# Altium integrated library Linear Technology Power Management Switching Regulator LTC1174-LTC3901.IntLib: 2647 symbols (part 348 of 364)
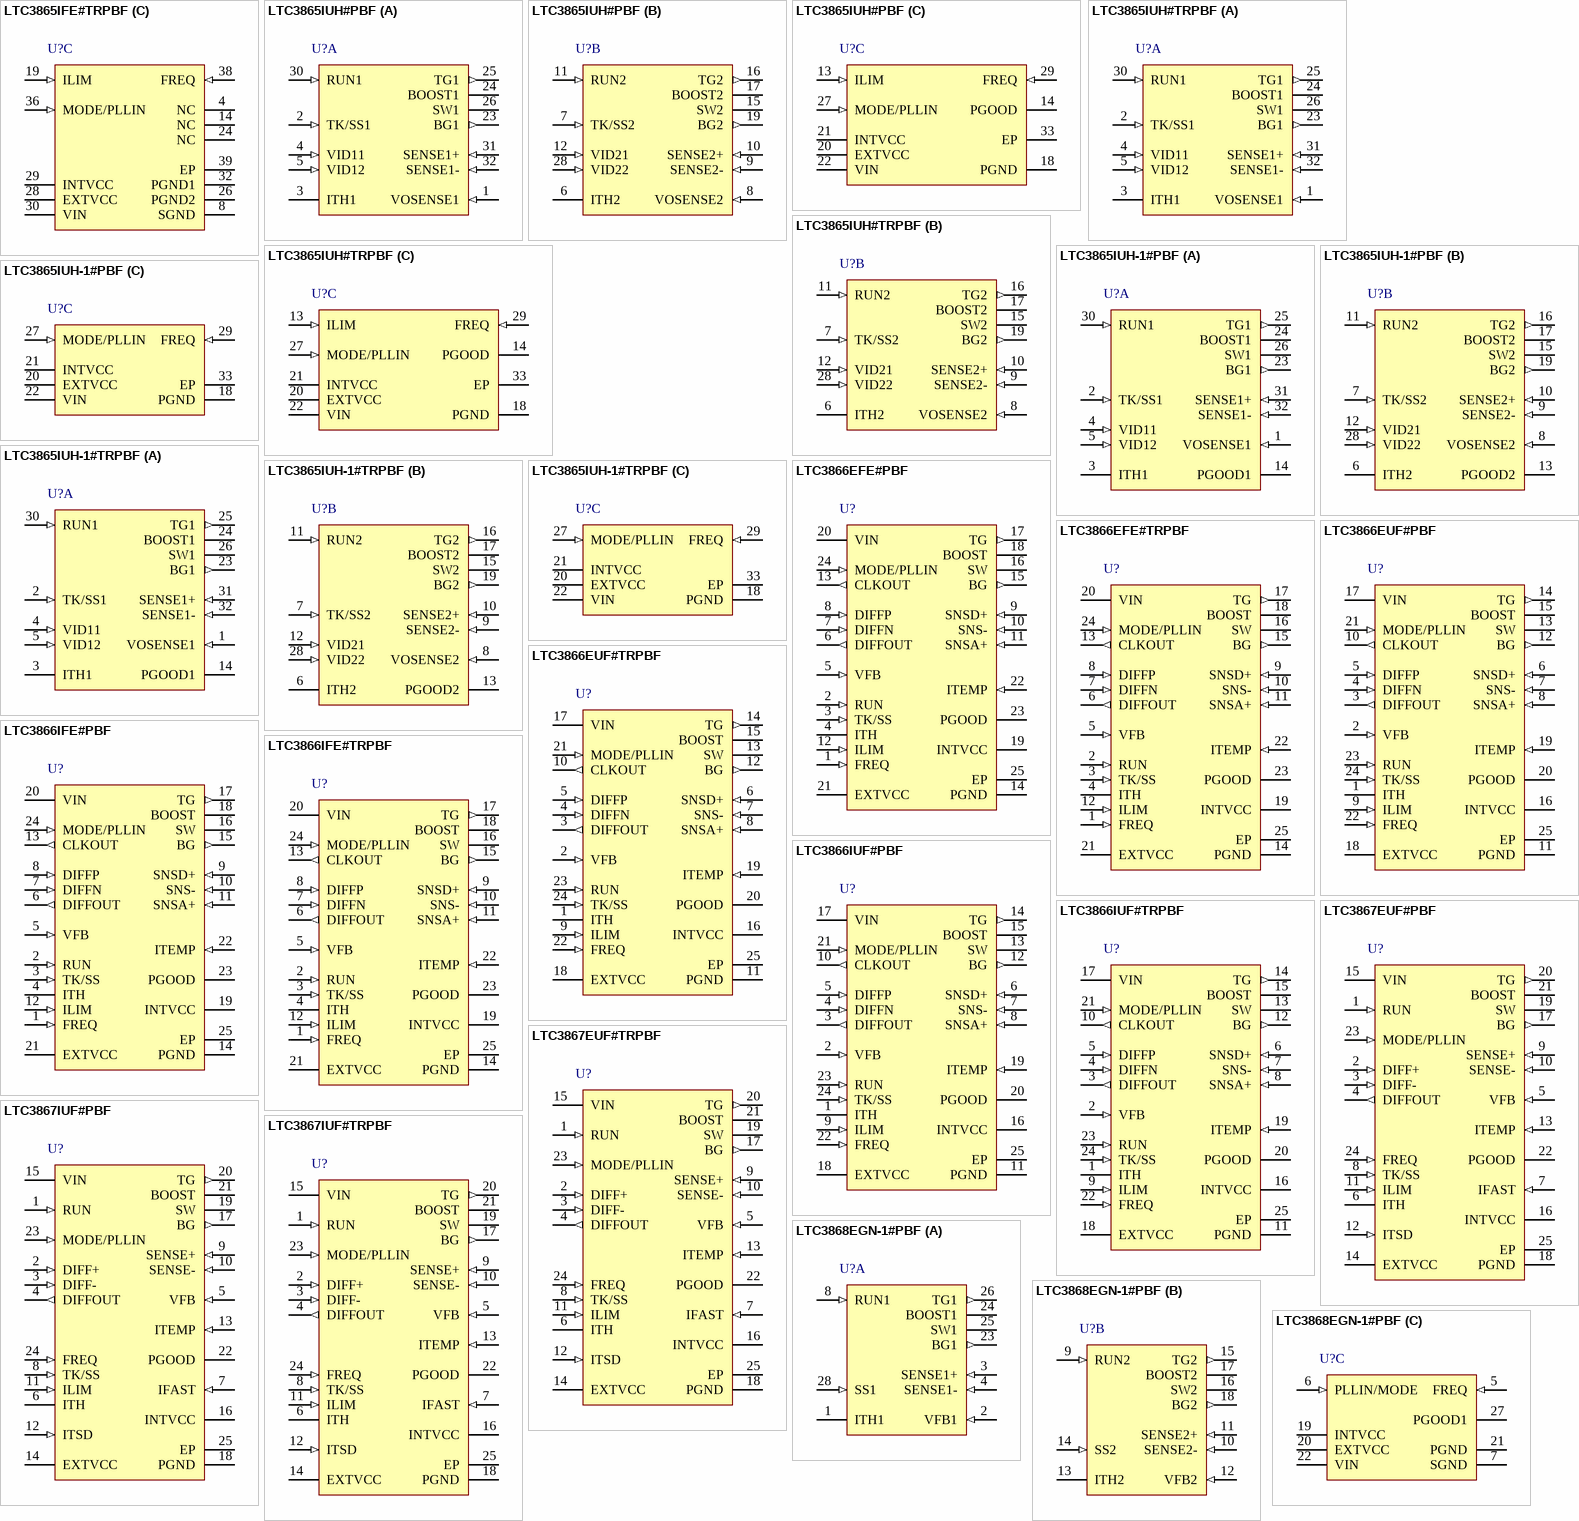
[diagram p297: symbols LTC3865IFE#TRPBF to LTC3868EGN-1#PBF]

## LTC3866IFE#TRPBF
designator U?
Current Mode Synchronous Controller for Sub Milliohm DCR Sensing, 24-pin SOP (FE-24-EPV-AA), -40 to 125 degC, Pb-Free, Tape and Reel; Manufacturer: Linear Technology; PartNumber: LTC3866IFE#TRPBF; Frequency Sync Range: 250kHz - 770kHz; Number of Outputs: 1; DatasheetVersion: Rev. B; PackageVersion: Rev. B, 09/2010; PackageReference: FE-24; PackageDescription: 24-Pin Plastic TSSOP, Body 7.8 x 4.4 mm, Pitch 0.65 mm; Supplier 1: Digi-Key; Supplier Part Number 1: LTC3866IFE#TRPBF-ND; Packing: Tape and Reel; RoHS: TRUE; Mounting Technology: Surface Mount; ComponentLink1Description: Manufacturer URL; ComponentLink1URL: http://www.linear.com/; ComponentLink2Description: Datasheet; ComponentLink2URL: http://cds.linear.com/docs/en/datasheet/3866fb.pdf; ComponentLink3Description: Package Specification; ComponentLink3URL: http://cds.linear.com/docs/en/packaging/TSSOP_24_05-08-1771.pdf
footprint LT-FE-24-EPV-AA_N (SOP, 24-Leads, Body 7.9x4.5mm, Pitch 0.65mm, Thermal Pad 2.74x3.25mm, IPC Medium Density)
footprint LT-FE-24-EPV-AA_L (SOP, 24-Leads, Body 7.9x4.5mm, Pitch 0.65mm, Thermal Pad 2.74x3.25mm, IPC High Density)
footprint LT-FE-24-EPV-AA_M (SOP, 24-Leads, Body 7.9x4.5mm, Pitch 0.65mm, Thermal Pad 2.74x3.25mm, IPC Low Density)
pins: 1 FREQ (in) "Oscillator Frequency Control Input. A 10uA current source flows out of this pin. Connecting a resistor between this pin and ground sets a DC voltage which in turn programs the oscillator frequency. Alternatively, this pin (See Datasheet)", 2 RUN (in) "Run Control Input. A voltage above 1.22V turns on the IC. Pulling this pin below 1.14V causes M198 the IC to shut down. There is a 1uA pull-up current for the pin. Once the RUN pin rises above 1.22V, an additional 4.5uA (See Datasheet)", 3 TK/SS (in) "Output Voltage Tracking and Soft-Start Input. An internal soft-start current of 1.25uA charges the external soft-start capacitor connected to this pin.", 4 ITH "Current Control Threshold and Error Amplifier Compensation Pin. The current comparator tripping threshold is proportional with this voltage.", 5 VFB (in) "Error Amplifier Feedback Input. This pin receives the remotely sensed feedback voltage to set the output voltage through an external resistive divider connected to the DIFFOUT pin or the output.", 6 DIFFOUT (out) "Output of Remote Sensing Differential Amplifier. Connect this pin to VFB through a resistive divider to set the desired output voltage.", 7 DIFFN (in) "Negative Input of Remote Sensing Differential Amplifier. Connect this pin close to the ground of the output load.", 8 DIFFP (in) "Positive Input of Remote Sensing Differential Amplifier. Connect this pin close to the output load.", 9 SNSD+ (in) "First Positive Current Sense Input. This pin is connected to sense the signal of the output inductor’s DCR, it is to be used with a filter that matches the bandwidth, L/DCR, of the inductor.", 10 SNS- (in) "Negative Current Sense Input. This negative input of the current comparator is to be connected to the output.", 11 SNSA+ (in) "Second Positive Current Sense Input. This input is to be connected to sense the signal of the output’s inductor DCR with a filter bandwidth of five times larger than L/DCR.", 12 ILIM (in) "Current Comparator Sense Voltage Limit. Apply a DC voltage to set the maximum current sense threshold for the current comparator.", 13 CLKOUT (out) "Clock Output Pin. The CLKOUT signal is 180degrees out of phase to the rising edge of the IC internal clock.", 14 PGND (power) "Power Ground. Connect to the source of the bottom N-channel MOSFET and the negative terminals of the VIN and INTVCC decoupling capacitors close to this pin.", 15 BG (out) "Bottom Gate Driver Output. This pin drives the gate of the bottom N-channel MOSFET and swings between INTVCC or EXTVCC and PGND.", 16 SW "Switch Node Connection. Connect this pin to the output filter inductor, bottom N-channel MOSFET drain and top N-channel MOSFET source. Voltage swing at these pins is from a Schottky diode (external) voltage drop below ground (See Datasheet)", 17 TG (out) "Top Gate Driver Output. This is a floating driver to be connected to the gate of the top N-channel MOSFET. The voltage swing of this pin equals to INTVCC superimposed over the switch node (SW) voltage.", 18 BOOST "Boosted Top Gate Driver Supply. The (+) terminal of the booststrap capacitor connects to this pin. This pins swings from a diode voltage drop below INTVCC up to VIN + INTVCC.", 19 INTVCC (power) "Internal 5.5V Regulator Output. The internal control circuits are powered from this voltage. Decouple this pin to PGND with a 4.7uF low ESR tantalum or ceramic capacitor.", 20 VIN (power) "Main Input Supply. Decouple this pin to PGND with a capacitor (0.1uF to 1uF). For applications where the main input power is 5V, tie the VIN and INTVCC pins together.", 21 EXTVCC (power) "External Supply Voltage Input. Whenever an external voltage supply greater than 4.7V is connected to this pin, an internal switch will close and bypass the internal low dropout regulator, and the external supply will power (See Datasheet)", 22 ITEMP (in) "Temperature DCR Compensation Input. Connect to a NTC (negative tempco) resistor placed near the output inductor to compensate for its DCR change over temperature. Floating this pin or tying it to INTVCC disables the DCR (See Datasheet)", 23 PGOOD (oc) "Power Good Indicator Output. Open-drain logic out that is pulled to ground when the output exceeds the 10% regulation window, after the internal 20us power bad mask timer expires.", 24 MODE/PLLIN (in) "Mode Operation or External Clock Synchronization. Connect this pin to SGND to set the continuous mode of operation. Connect to INTVCC to enable pulse-skipping mode of operation. Leaving the pin floating will enable Burst (See Datasheet)", 25 EP (power) "Signal Ground. This is the ground of the controller. Connect compensation components and output setting resistors to this ground. The exposed pad must be soldered to the PCB ground plane."

## LTC3866IUF#PBF
designator U?
Current Mode Synchronous Controller for Sub Milliohm DCR Sensing, 24-pin QFN (UF-24), -40 to 125 degC, Pb-Free; Manufacturer: Linear Technology; PartNumber: LTC3866IUF#PBF; Frequency Sync Range: 250kHz - 770kHz; Number of Outputs: 1; DatasheetVersion: Rev. B; PackageVersion: Rev. B, 02/2012; PackageReference: UF24; PackageDescription: 24-Pin Plastic QFN, Body 4 x 4 mm, Pitch 0.5 mm; Supplier 1: Digi-Key; Supplier Part Number 1: LTC3866IUF#PBF-ND; RoHS: TRUE; Mounting Technology: Surface Mount; Code_JEDEC: MO-220; ComponentLink1Description: Manufacturer URL; ComponentLink1URL: http://www.linear.com/; ComponentLink2Description: Datasheet; ComponentLink2URL: http://cds.linear.com/docs/en/datasheet/3866fb.pdf; ComponentLink3Description: Package Specification; ComponentLink3URL: http://cds.linear.com/docs/en/packaging/%28UF24%29%20QFN%2005-08-1697%20Rev%20B.pdf
footprint LT-UF-24_N (QFN, 24-Leads, Body 4.1x4.1mm, Pitch 0.5mm, Thermal Pad 2.45x2.45mm, IPC Medium Density)
footprint LT-UF-24_L (QFN, 24-Leads, Body 4.1x4.1mm, Pitch 0.5mm, Thermal Pad 2.45x2.45mm, IPC High Density)
footprint LT-UF-24_M (QFN, 24-Leads, Body 4.1x4.1mm, Pitch 0.5mm, Thermal Pad 2.45x2.45mm, IPC Low Density)
pins: 1 ITH "Current Control Threshold and Error Amplifier Compensation Pin. The current comparator tripping threshold is proportional with this voltage", 2 VFB (in) "Error Amplifier Feedback Input. This pin receives the remotely sensed feedback voltage to set the output voltage through an external resistive divider connected to the DIFFOUT pin or the output.", 3 DIFFOUT (out) "Output of Remote Sensing Differential Amplifier. Connect this pin to VFB through a resistive divider to set the desired output voltage.", 4 DIFFN (in) "Negative Input of Remote Sensing Differential Amplifier. Connect this pin close to the ground of the output load.", 5 DIFFP (in) "Positive Input of Remote Sensing Differential Amplifier. Connect this pin close to the output load.", 6 SNSD+ (in) "First Positive Current Sense Input. This pin is connected to sense the signal of the output inductor’s DCR, it is to be used with a filter that matches the bandwidth, L/DCR, of the inductor.", 7 SNS- (in) "Negative Current Sense Input. This negative input of the current comparator is to be connected to the output.", 8 SNSA+ (in) "Second Positive Current Sense Input. This input is to be connected to sense the signal of the output’s inductor DCR with a filter bandwidth of five times larger than L/DCR.", 9 ILIM (in) "Current Comparator Sense Voltage Limit. Apply a DC voltage to set the maximum current sense threshold for the current comparator", 10 CLKOUT (out) "Clock Output Pin. The CLKOUT signal is 180degrees out of phase to the rising edge of the IC internal clock.", 11 PGND (power) "Power Ground. Connect to the source of the bottom N-channel MOSFET and the negative terminals of the VIN and INTVCC decoupling capacitors close to this pin.", 12 BG (out) "Bottom Gate Driver Output. This pin drives the gate of the bottom N-channel MOSFET and swings between INTVCC or EXTVCC and PGND.", 13 SW "Switch Node Connection. Connect this pin to the output filter inductor, bottom N-channel MOSFET drain and top N-channel MOSFET source. Voltage swing at these pins is from a Schottky diode (external) voltage drop below ground (See Datasheet)", 14 TG (out) "Top Gate Driver Output. This is a floating driver to be connected to the gate of the top N-channel MOSFET. The voltage swing of this pin equals to INTVCC superimposed over the switch node (SW) voltage.", 15 BOOST "Boosted Top Gate Driver Supply. The (+) terminal of the booststrap capacitor connects to this pin. This pins swings from a diode voltage drop below INTVCC up to VIN + INTVCC.", 16 INTVCC (power) "Internal 5.5V Regulator Output. The internal control circuits are powered from this voltage. Decouple this pin to PGND with a 4.7uF low ESR tantalum or ceramic capacitor.", 17 VIN (power) "Main Input Supply. Decouple this pin to PGND with a capacitor (0.1uF to 1uF). For applications where the main input power is 5V, tie the VIN and INTVCC pins together.", 18 EXTVCC (power) "External Supply Voltage Input. Whenever an external voltage supply greater than 4.7V is connected to this pin, an internal switch will close and bypass the internal low dropout regulator, and the external supply will power (See Datasheet)", 19 ITEMP (in) "Temperature DCR Compensation Input. Connect to a NTC (negative tempco) resistor placed near the output inductor to compensate for its DCR change over temperature. Floating this pin or tying it to INTVCC disables the DCR (See Datasheet)", 20 PGOOD (oc) "Power Good Indicator Output. Open-drain logic out that is pulled to ground when the output exceeds the 10% regulation window, after the internal 20us power bad mask timer expires", 21 MODE/PLLIN (in) "Mode Operation or External Clock Synchronization. Connect this pin to SGND to set the continuous mode of operation. Connect to INTVCC to enable pulse-skipping mode of operation. Leaving the pin floating will enable Burst (See Datasheet)", 22 FREQ (in) "Oscillator Frequency Control Input. A 10uA current source flows out of this pin. Connecting a resistor between this pin and ground sets a DC voltage which in turn programs the oscillator frequency. Alternatively, this pin (See Datasheet)", 23 RUN (in) "Run Control Input. A voltage above 1.22V turns on the IC. Pulling this pin below 1.14V causes the IC to shut down. There is a 1uA pull-up current for the pin. Once the RUN pin rises above 1.22V, an additional 4.5uA pull-up (See Datasheet)", 24 TK/SS (in) "Output Voltage Tracking and Soft-Start Input. An internal soft-start current of 1.25uA charges the external soft-start capacitor connected to this pin.", 25 EP (power) "Signal Ground. This is the ground of the controller. Connect compensation components and output setting resistors to this ground. The exposed pad must be soldered to the PCB ground plane."

## LTC3866IUF#TRPBF
designator U?
Current Mode Synchronous Controller for Sub Milliohm DCR Sensing, 24-pin QFN (UF-24), -40 to 125 degC, Pb-Free, Tape and Reel; Manufacturer: Linear Technology; PartNumber: LTC3866IUF#TRPBF; Frequency Sync Range: 250kHz - 770kHz; Number of Outputs: 1; DatasheetVersion: Rev. B; PackageVersion: Rev. B, 02/2012; PackageReference: UF24; PackageDescription: 24-Pin Plastic QFN, Body 4 x 4 mm, Pitch 0.5 mm; Supplier 1: Digi-Key; Supplier Part Number 1: LTC3866IUF#TRPBF-ND; Packing: Tape and Reel; RoHS: TRUE; Mounting Technology: Surface Mount; Code_JEDEC: MO-220; ComponentLink1Description: Manufacturer URL; ComponentLink1URL: http://www.linear.com/; ComponentLink2Description: Datasheet; ComponentLink2URL: http://cds.linear.com/docs/en/datasheet/3866fb.pdf; ComponentLink3Description: Package Specification; ComponentLink3URL: http://cds.linear.com/docs/en/packaging/%28UF24%29%20QFN%2005-08-1697%20Rev%20B.pdf
footprint LT-UF-24_N (QFN, 24-Leads, Body 4.1x4.1mm, Pitch 0.5mm, Thermal Pad 2.45x2.45mm, IPC Medium Density)
footprint LT-UF-24_L (QFN, 24-Leads, Body 4.1x4.1mm, Pitch 0.5mm, Thermal Pad 2.45x2.45mm, IPC High Density)
footprint LT-UF-24_M (QFN, 24-Leads, Body 4.1x4.1mm, Pitch 0.5mm, Thermal Pad 2.45x2.45mm, IPC Low Density)
pins: 1 ITH "Current Control Threshold and Error Amplifier Compensation Pin. The current comparator tripping threshold is proportional with this voltage", 2 VFB (in) "Error Amplifier Feedback Input. This pin receives the remotely sensed feedback voltage to set the output voltage through an external resistive divider connected to the DIFFOUT pin or the output.", 3 DIFFOUT (out) "Output of Remote Sensing Differential Amplifier. Connect this pin to VFB through a resistive divider to set the desired output voltage.", 4 DIFFN (in) "Negative Input of Remote Sensing Differential Amplifier. Connect this pin close to the ground of the output load.", 5 DIFFP (in) "Positive Input of Remote Sensing Differential Amplifier. Connect this pin close to the output load.", 6 SNSD+ (in) "First Positive Current Sense Input. This pin is connected to sense the signal of the output inductor’s DCR, it is to be used with a filter that matches the bandwidth, L/DCR, of the inductor.", 7 SNS- (in) "Negative Current Sense Input. This negative input of the current comparator is to be connected to the output.", 8 SNSA+ (in) "Second Positive Current Sense Input. This input is to be connected to sense the signal of the output’s inductor DCR with a filter bandwidth of five times larger than L/DCR.", 9 ILIM (in) "Current Comparator Sense Voltage Limit. Apply a DC voltage to set the maximum current sense threshold for the current comparator", 10 CLKOUT (out) "Clock Output Pin. The CLKOUT signal is 180degrees out of phase to the rising edge of the IC internal clock.", 11 PGND (power) "Power Ground. Connect to the source of the bottom N-channel MOSFET and the negative terminals of the VIN and INTVCC decoupling capacitors close to this pin.", 12 BG (out) "Bottom Gate Driver Output. This pin drives the gate of the bottom N-channel MOSFET and swings between INTVCC or EXTVCC and PGND.", 13 SW "Switch Node Connection. Connect this pin to the output filter inductor, bottom N-channel MOSFET drain and top N-channel MOSFET source. Voltage swing at these pins is from a Schottky diode (external) voltage drop below ground (See Datasheet)", 14 TG (out) "Top Gate Driver Output. This is a floating driver to be connected to the gate of the top N-channel MOSFET. The voltage swing of this pin equals to INTVCC superimposed over the switch node (SW) voltage.", 15 BOOST "Boosted Top Gate Driver Supply. The (+) terminal of the booststrap capacitor connects to this pin. This pins swings from a diode voltage drop below INTVCC up to VIN + INTVCC.", 16 INTVCC (power) "Internal 5.5V Regulator Output. The internal control circuits are powered from this voltage. Decouple this pin to PGND with a 4.7uF low ESR tantalum or ceramic capacitor.", 17 VIN (power) "Main Input Supply. Decouple this pin to PGND with a capacitor (0.1uF to 1uF). For applications where the main input power is 5V, tie the VIN and INTVCC pins together.", 18 EXTVCC (power) "External Supply Voltage Input. Whenever an external voltage supply greater than 4.7V is connected to this pin, an internal switch will close and bypass the internal low dropout regulator, and the external supply will power (See Datasheet)", 19 ITEMP (in) "Temperature DCR Compensation Input. Connect to a NTC (negative tempco) resistor placed near the output inductor to compensate for its DCR change over temperature. Floating this pin or tying it to INTVCC disables the DCR (See Datasheet)", 20 PGOOD (oc) "Power Good Indicator Output. Open-drain logic out that is pulled to ground when the output exceeds the 10% regulation window, after the internal 20us power bad mask timer expires", 21 MODE/PLLIN (in) "Mode Operation or External Clock Synchronization. Connect this pin to SGND to set the continuous mode of operation. Connect to INTVCC to enable pulse-skipping mode of operation. Leaving the pin floating will enable Burst (See Datasheet)", 22 FREQ (in) "Oscillator Frequency Control Input. A 10uA current source flows out of this pin. Connecting a resistor between this pin and ground sets a DC voltage which in turn programs the oscillator frequency. Alternatively, this pin (See Datasheet)", 23 RUN (in) "Run Control Input. A voltage above 1.22V turns on the IC. Pulling this pin below 1.14V causes the IC to shut down. There is a 1uA pull-up current for the pin. Once the RUN pin rises above 1.22V, an additional 4.5uA pull-up (See Datasheet)", 24 TK/SS (in) "Output Voltage Tracking and Soft-Start Input. An internal soft-start current of 1.25uA charges the external soft-start capacitor connected to this pin.", 25 EP (power) "Signal Ground. This is the ground of the controller. Connect compensation components and output setting resistors to this ground. The exposed pad must be soldered to the PCB ground plane."

## LTC3867EUF#PBF
designator U?
Synchronous Step-Down DC/DC Controller with Differential Remote Sense and Nonlinear Control, 24-pin QFN (UF-24), -40 to 125 degC, Pb-Free; Manufacturer: Linear Technology; PartNumber: LTC3867EUF#PBF; Frequency Sync Range: 200kHz - 1.2MHz; Number of Outputs: 1; PackageVersion: Rev. B, 02/2012; PackageReference: UF24; PackageDescription: 24-Pin Plastic QFN, Body 4 x 4 mm, Pitch 0.5 mm; Supplier 1: Digi-Key; Supplier Part Number 1: LTC3867EUF#PBF-ND; Supplier 2: Farnell; Supplier Part Number 2: 2009060; Supplier 3: Newark; Supplier Part Number 3: 59T5644; RoHS: TRUE; Mounting Technology: Surface Mount; Code_JEDEC: MO-220; ComponentLink1Description: Manufacturer URL; ComponentLink1URL: http://www.linear.com/; ComponentLink2Description: Datasheet; ComponentLink2URL: http://cds.linear.com/docs/en/datasheet/3867f.pdf; ComponentLink3Description: Package Specification; ComponentLink3URL: http://cds.linear.com/docs/en/packaging/%28UF24%29%20QFN%2005-08-1697%20Rev%20B.pdf
footprint LT-UF-24_N (QFN, 24-Leads, Body 4.1x4.1mm, Pitch 0.5mm, Thermal Pad 2.45x2.45mm, IPC Medium Density)
footprint LT-UF-24_L (QFN, 24-Leads, Body 4.1x4.1mm, Pitch 0.5mm, Thermal Pad 2.45x2.45mm, IPC High Density)
footprint LT-UF-24_M (QFN, 24-Leads, Body 4.1x4.1mm, Pitch 0.5mm, Thermal Pad 2.45x2.45mm, IPC Low Density)
pins: 1 RUN (in) "Run Control Input. A voltage above 1.22V turns on the IC. There is a 1uA pull-up current on this pin. Once the RUN pin rises above the 1.22V threshold the pull-up increases to 5uA.", 2 DIFF+ (in) "Remote Sense Differential Amplifier Noninverting Input. Connect to Feedback divider center tap with the divider across the output load.", 3 DIFF- (in) "Remote Sense Differential Amplifier Inverting Input. Connect to sense ground at the output load.", 4 DIFFOUT (out) "Differential Amplifier Output", 5 VFB (in) "Error Amplifier Inverting Input. Connect to DIFFOUT for remote VOUT sensing", 6 ITH "Current Control Thresholds and Error Amplifier Compensation Point. The current comparator’s threshold increases with the ITH control voltage.", 7 IFAST (in) "Programming Pin for Nonlinear Control Trip Threshold. A resistor to SGND programs the trip threshold for the nonlinear control circuit. Connect to INTVCC to disable this function.", 8 TK/SS (in) "Output Voltage Tracking and Soft-Start Input. The voltage ramp rate at this pin sets the voltage ramp rate of the output. A capacitor to ground accomplishes soft-start. This pin has a 1.25uA pull-up current", 9 SENSE+ (in) "Current Sense Comparator Input. The (+) input to the current comparator is normally connected to the midpoint of the inductor’s parallel RC sense circuit or the inductor side of the current sensing resistor.", 10 SENSE- (in) "Current Sense Comparator Input. The (-) input to the current comparator is normally connected to VOUT.", 11 ILIM (in) "Current Comparator Sense Voltage Limit Selection Pin.", 12 ITSD (in) "Inductor Temperature-Based Thermal Shutdown. Sources a 20uA current. Use a Murata PRF18 series PTC to ground. Grounding this pin disables this function.", 13 ITEMP (in) "Input of the Temperature Sensing Comparators. Connect this pin to an external NTC resistor placed near the inductor. Floating this pin disables the DCR temperature compensation function", 14 EXTVCC (power) "External Power Input to an Internal Switch Connected to INTVCC. This switch closes and supplies the IC power, bypassing the internal 5.3V regulator, whenever EXTVCC is higher than 4.7V. Do not exceed 6V.", 15 VIN (power) "Main Input Supply. Decouple this pin to PGND with a capacitor (0.1uF to 1uF)", 16 INTVCC (power) "Internal 5.3V Regulator Output and Bottom MOSFET Driver Supply. The control circuits are powered from this voltage. Decouple this pin to PGND with a minimum of 4.7uF low ESR tantalum or ceramic capacitor.", 17 BG (out) "Bottom Gate Driver Output. This pin drives the gate(s) of the bottom N-channel MOSFET(s) between PGND and INTVCC.", 18 PGND (power) "Power Ground Pin. Connect this pin closely to the source(s) of the bottom N-channel MOSFET(s), the (-) terminal of CVCC and (-) terminal of CIN.", 19 SW "Switch Node Connection to the Inductor. Voltage swing at this pin is from a Schottky diode (external) voltage drop below ground to VIN.", 20 TG (out) "Top Gate Driver Output. This is the output of the floating driver with a voltage swing equal to INTVCC superimposed on the SW voltage.", 21 BOOST "Boosted Floating Driver Supply. The (+) terminal of the bootstrap capacitor connects to this pin. This pin swings from a diode drop below INTVCC up to VIN + INTVCC.", 22 PGOOD (oc) "Power Good Indicator Output. Opendrain output that pulls to ground when output voltage is not in regulation.", 23 MODE/PLLIN (in) "This is a dual function pin. Tying this pin to SGND, INTVCC or floating it enables forced continuous mode, pulse-skipping mode or Burst Mode operation respectively. Applying a clock signal to this pin causes the internal PLL (See Datasheet)", 24 FREQ (in) "Frequency Set/Select Pin. A resistor between this pin and SGND sets the switching frequency. This pin sources 20uA.", 25 EP (power) "Signal Ground. The exposed pad must be soldered to the PCB ground for electrical connection and rated thermal performance. All small-signal components and compensation components should be connected here. Connect to PGND at (See Datasheet)"

## LTC3867EUF#TRPBF
designator U?
Synchronous Step-Down DC/DC Controller with Differential Remote Sense and Nonlinear Control, 24-pin QFN (UF-24), -40 to 125 degC, Pb-Free, Tape and Reel; Manufacturer: Linear Technology; PartNumber: LTC3867EUF#TRPBF; Frequency Sync Range: 200kHz - 1.2MHz; Number of Outputs: 1; PackageVersion: Rev. B, 02/2012; PackageReference: UF24; PackageDescription: 24-Pin Plastic QFN, Body 4 x 4 mm, Pitch 0.5 mm; Supplier 1: Digi-Key; Supplier Part Number 1: LTC3867EUF#TRPBF-ND; Supplier 2: Newark; Supplier Part Number 2: 59T5645; Packing: Tape and Reel; RoHS: TRUE; Mounting Technology: Surface Mount; Code_JEDEC: MO-220; ComponentLink1Description: Manufacturer URL; ComponentLink1URL: http://www.linear.com/; ComponentLink2Description: Datasheet; ComponentLink2URL: http://cds.linear.com/docs/en/datasheet/3867f.pdf; ComponentLink3Description: Package Specification; ComponentLink3URL: http://cds.linear.com/docs/en/packaging/%28UF24%29%20QFN%2005-08-1697%20Rev%20B.pdf
footprint LT-UF-24_N (QFN, 24-Leads, Body 4.1x4.1mm, Pitch 0.5mm, Thermal Pad 2.45x2.45mm, IPC Medium Density)
footprint LT-UF-24_L (QFN, 24-Leads, Body 4.1x4.1mm, Pitch 0.5mm, Thermal Pad 2.45x2.45mm, IPC High Density)
footprint LT-UF-24_M (QFN, 24-Leads, Body 4.1x4.1mm, Pitch 0.5mm, Thermal Pad 2.45x2.45mm, IPC Low Density)
pins: 1 RUN (in) "Run Control Input. A voltage above 1.22V turns on the IC. There is a 1uA pull-up current on this pin. Once the RUN pin rises above the 1.22V threshold the pull-up increases to 5uA.", 2 DIFF+ (in) "Remote Sense Differential Amplifier Noninverting Input. Connect to Feedback divider center tap with the divider across the output load.", 3 DIFF- (in) "Remote Sense Differential Amplifier Inverting Input. Connect to sense ground at the output load.", 4 DIFFOUT (out) "Differential Amplifier Output", 5 VFB (in) "Error Amplifier Inverting Input. Connect to DIFFOUT for remote VOUT sensing", 6 ITH "Current Control Thresholds and Error Amplifier Compensation Point. The current comparator’s threshold increases with the ITH control voltage.", 7 IFAST (in) "Programming Pin for Nonlinear Control Trip Threshold. A resistor to SGND programs the trip threshold for the nonlinear control circuit. Connect to INTVCC to disable this function.", 8 TK/SS (in) "Output Voltage Tracking and Soft-Start Input. The voltage ramp rate at this pin sets the voltage ramp rate of the output. A capacitor to ground accomplishes soft-start. This pin has a 1.25uA pull-up current", 9 SENSE+ (in) "Current Sense Comparator Input. The (+) input to the current comparator is normally connected to the midpoint of the inductor’s parallel RC sense circuit or the inductor side of the current sensing resistor.", 10 SENSE- (in) "Current Sense Comparator Input. The (-) input to the current comparator is normally connected to VOUT.", 11 ILIM (in) "Current Comparator Sense Voltage Limit Selection Pin.", 12 ITSD (in) "Inductor Temperature-Based Thermal Shutdown. Sources a 20uA current. Use a Murata PRF18 series PTC to ground. Grounding this pin disables this function.", 13 ITEMP (in) "Input of the Temperature Sensing Comparators. Connect this pin to an external NTC resistor placed near the inductor. Floating this pin disables the DCR temperature compensation function", 14 EXTVCC (power) "External Power Input to an Internal Switch Connected to INTVCC. This switch closes and supplies the IC power, bypassing the internal 5.3V regulator, whenever EXTVCC is higher than 4.7V. Do not exceed 6V.", 15 VIN (power) "Main Input Supply. Decouple this pin to PGND with a capacitor (0.1uF to 1uF)", 16 INTVCC (power) "Internal 5.3V Regulator Output and Bottom MOSFET Driver Supply. The control circuits are powered from this voltage. Decouple this pin to PGND with a minimum of 4.7uF low ESR tantalum or ceramic capacitor.", 17 BG (out) "Bottom Gate Driver Output. This pin drives the gate(s) of the bottom N-channel MOSFET(s) between PGND and INTVCC.", 18 PGND (power) "Power Ground Pin. Connect this pin closely to the source(s) of the bottom N-channel MOSFET(s), the (-) terminal of CVCC and (-) terminal of CIN.", 19 SW "Switch Node Connection to the Inductor. Voltage swing at this pin is from a Schottky diode (external) voltage drop below ground to VIN.", 20 TG (out) "Top Gate Driver Output. This is the output of the floating driver with a voltage swing equal to INTVCC superimposed on the SW voltage.", 21 BOOST "Boosted Floating Driver Supply. The (+) terminal of the bootstrap capacitor connects to this pin. This pin swings from a diode drop below INTVCC up to VIN + INTVCC.", 22 PGOOD (oc) "Power Good Indicator Output. Opendrain output that pulls to ground when output voltage is not in regulation.", 23 MODE/PLLIN (in) "This is a dual function pin. Tying this pin to SGND, INTVCC or floating it enables forced continuous mode, pulse-skipping mode or Burst Mode operation respectively. Applying a clock signal to this pin causes the internal PLL (See Datasheet)", 24 FREQ (in) "Frequency Set/Select Pin. A resistor between this pin and SGND sets the switching frequency. This pin sources 20uA.", 25 EP (power) "Signal Ground. The exposed pad must be soldered to the PCB ground for electrical connection and rated thermal performance. All small-signal components and compensation components should be connected here. Connect to PGND at (See Datasheet)"

## LTC3867IUF#PBF
designator U?
Synchronous Step-Down DC/DC Controller with Differential Remote Sense and Nonlinear Control, 24-pin QFN (UF-24), -40 to 125 degC, Pb-Free; Manufacturer: Linear Technology; PartNumber: LTC3867IUF#PBF; Frequency Sync Range: 200kHz - 1.2MHz; Number of Outputs: 1; PackageVersion: Rev. B, 02/2012; PackageReference: UF24; PackageDescription: 24-Pin Plastic QFN, Body 4 x 4 mm, Pitch 0.5 mm; Supplier 1: Digi-Key; Supplier Part Number 1: LTC3867IUF#PBF-ND; RoHS: TRUE; Mounting Technology: Surface Mount; Code_JEDEC: MO-220; ComponentLink1Description: Manufacturer URL; ComponentLink1URL: http://www.linear.com/; ComponentLink2Description: Datasheet; ComponentLink2URL: http://cds.linear.com/docs/en/datasheet/3867f.pdf; ComponentLink3Description: Package Specification; ComponentLink3URL: http://cds.linear.com/docs/en/packaging/%28UF24%29%20QFN%2005-08-1697%20Rev%20B.pdf
footprint LT-UF-24_N (QFN, 24-Leads, Body 4.1x4.1mm, Pitch 0.5mm, Thermal Pad 2.45x2.45mm, IPC Medium Density)
footprint LT-UF-24_L (QFN, 24-Leads, Body 4.1x4.1mm, Pitch 0.5mm, Thermal Pad 2.45x2.45mm, IPC High Density)
footprint LT-UF-24_M (QFN, 24-Leads, Body 4.1x4.1mm, Pitch 0.5mm, Thermal Pad 2.45x2.45mm, IPC Low Density)
pins: 1 RUN (in) "Run Control Input. A voltage above 1.22V turns on the IC. There is a 1uA pull-up current on this pin. Once the RUN pin rises above the 1.22V threshold the pull-up increases to 5uA.", 2 DIFF+ (in) "Remote Sense Differential Amplifier Noninverting Input. Connect to Feedback divider center tap with the divider across the output load.", 3 DIFF- (in) "Remote Sense Differential Amplifier Inverting Input. Connect to sense ground at the output load.", 4 DIFFOUT (out) "Differential Amplifier Output", 5 VFB (in) "Error Amplifier Inverting Input. Connect to DIFFOUT for remote VOUT sensing", 6 ITH "Current Control Thresholds and Error Amplifier Compensation Point. The current comparator’s threshold increases with the ITH control voltage.", 7 IFAST (in) "Programming Pin for Nonlinear Control Trip Threshold. A resistor to SGND programs the trip threshold for the nonlinear control circuit. Connect to INTVCC to disable this function.", 8 TK/SS (in) "Output Voltage Tracking and Soft-Start Input. The voltage ramp rate at this pin sets the voltage ramp rate of the output. A capacitor to ground accomplishes soft-start. This pin has a 1.25uA pull-up current", 9 SENSE+ (in) "Current Sense Comparator Input. The (+) input to the current comparator is normally connected to the midpoint of the inductor’s parallel RC sense circuit or the inductor side of the current sensing resistor.", 10 SENSE- (in) "Current Sense Comparator Input. The (-) input to the current comparator is normally connected to VOUT.", 11 ILIM (in) "Current Comparator Sense Voltage Limit Selection Pin.", 12 ITSD (in) "Inductor Temperature-Based Thermal Shutdown. Sources a 20uA current. Use a Murata PRF18 series PTC to ground. Grounding this pin disables this function.", 13 ITEMP (in) "Input of the Temperature Sensing Comparators. Connect this pin to an external NTC resistor placed near the inductor. Floating this pin disables the DCR temperature compensation function", 14 EXTVCC (power) "External Power Input to an Internal Switch Connected to INTVCC. This switch closes and supplies the IC power, bypassing the internal 5.3V regulator, whenever EXTVCC is higher than 4.7V. Do not exceed 6V.", 15 VIN (power) "Main Input Supply. Decouple this pin to PGND with a capacitor (0.1uF to 1uF)", 16 INTVCC (power) "Internal 5.3V Regulator Output and Bottom MOSFET Driver Supply. The control circuits are powered from this voltage. Decouple this pin to PGND with a minimum of 4.7uF low ESR tantalum or ceramic capacitor.", 17 BG (out) "Bottom Gate Driver Output. This pin drives the gate(s) of the bottom N-channel MOSFET(s) between PGND and INTVCC.", 18 PGND (power) "Power Ground Pin. Connect this pin closely to the source(s) of the bottom N-channel MOSFET(s), the (-) terminal of CVCC and (-) terminal of CIN.", 19 SW "Switch Node Connection to the Inductor. Voltage swing at this pin is from a Schottky diode (external) voltage drop below ground to VIN.", 20 TG (out) "Top Gate Driver Output. This is the output of the floating driver with a voltage swing equal to INTVCC superimposed on the SW voltage.", 21 BOOST "Boosted Floating Driver Supply. The (+) terminal of the bootstrap capacitor connects to this pin. This pin swings from a diode drop below INTVCC up to VIN + INTVCC.", 22 PGOOD (oc) "Power Good Indicator Output. Opendrain output that pulls to ground when output voltage is not in regulation.", 23 MODE/PLLIN (in) "This is a dual function pin. Tying this pin to SGND, INTVCC or floating it enables forced continuous mode, pulse-skipping mode or Burst Mode operation respectively. Applying a clock signal to this pin causes the internal PLL (See Datasheet)", 24 FREQ (in) "Frequency Set/Select Pin. A resistor between this pin and SGND sets the switching frequency. This pin sources 20uA.", 25 EP (power) "Signal Ground. The exposed pad must be soldered to the PCB ground for electrical connection and rated thermal performance. All small-signal components and compensation components should be connected here. Connect to PGND at (See Datasheet)"

## LTC3867IUF#TRPBF
designator U?
Synchronous Step-Down DC/DC Controller with Differential Remote Sense and Nonlinear Control, 24-pin QFN (UF-24), -40 to 125 degC, Pb-Free, Tape and Reel; Manufacturer: Linear Technology; PartNumber: LTC3867IUF#TRPBF; Frequency Sync Range: 200kHz - 1.2MHz; Number of Outputs: 1; PackageVersion: Rev. B, 02/2012; PackageReference: UF24; PackageDescription: 24-Pin Plastic QFN, Body 4 x 4 mm, Pitch 0.5 mm; Supplier 1: Digi-Key; Supplier Part Number 1: LTC3867IUF#TRPBF-ND; Packing: Tape and Reel; RoHS: TRUE; Mounting Technology: Surface Mount; Code_JEDEC: MO-220; ComponentLink1Description: Manufacturer URL; ComponentLink1URL: http://www.linear.com/; ComponentLink2Description: Datasheet; ComponentLink2URL: http://cds.linear.com/docs/en/datasheet/3867f.pdf; ComponentLink3Description: Package Specification; ComponentLink3URL: http://cds.linear.com/docs/en/packaging/%28UF24%29%20QFN%2005-08-1697%20Rev%20B.pdf
footprint LT-UF-24_N (QFN, 24-Leads, Body 4.1x4.1mm, Pitch 0.5mm, Thermal Pad 2.45x2.45mm, IPC Medium Density)
footprint LT-UF-24_L (QFN, 24-Leads, Body 4.1x4.1mm, Pitch 0.5mm, Thermal Pad 2.45x2.45mm, IPC High Density)
footprint LT-UF-24_M (QFN, 24-Leads, Body 4.1x4.1mm, Pitch 0.5mm, Thermal Pad 2.45x2.45mm, IPC Low Density)
pins: 1 RUN (in) "Run Control Input. A voltage above 1.22V turns on the IC. There is a 1uA pull-up current on this pin. Once the RUN pin rises above the 1.22V threshold the pull-up increases to 5uA.", 2 DIFF+ (in) "Remote Sense Differential Amplifier Noninverting Input. Connect to Feedback divider center tap with the divider across the output load.", 3 DIFF- (in) "Remote Sense Differential Amplifier Inverting Input. Connect to sense ground at the output load.", 4 DIFFOUT (out) "Differential Amplifier Output", 5 VFB (in) "Error Amplifier Inverting Input. Connect to DIFFOUT for remote VOUT sensing", 6 ITH "Current Control Thresholds and Error Amplifier Compensation Point. The current comparator’s threshold increases with the ITH control voltage.", 7 IFAST (in) "Programming Pin for Nonlinear Control Trip Threshold. A resistor to SGND programs the trip threshold for the nonlinear control circuit. Connect to INTVCC to disable this function.", 8 TK/SS (in) "Output Voltage Tracking and Soft-Start Input. The voltage ramp rate at this pin sets the voltage ramp rate of the output. A capacitor to ground accomplishes soft-start. This pin has a 1.25uA pull-up current", 9 SENSE+ (in) "Current Sense Comparator Input. The (+) input to the current comparator is normally connected to the midpoint of the inductor’s parallel RC sense circuit or the inductor side of the current sensing resistor.", 10 SENSE- (in) "Current Sense Comparator Input. The (-) input to the current comparator is normally connected to VOUT.", 11 ILIM (in) "Current Comparator Sense Voltage Limit Selection Pin.", 12 ITSD (in) "Inductor Temperature-Based Thermal Shutdown. Sources a 20uA current. Use a Murata PRF18 series PTC to ground. Grounding this pin disables this function.", 13 ITEMP (in) "Input of the Temperature Sensing Comparators. Connect this pin to an external NTC resistor placed near the inductor. Floating this pin disables the DCR temperature compensation function", 14 EXTVCC (power) "External Power Input to an Internal Switch Connected to INTVCC. This switch closes and supplies the IC power, bypassing the internal 5.3V regulator, whenever EXTVCC is higher than 4.7V. Do not exceed 6V.", 15 VIN (power) "Main Input Supply. Decouple this pin to PGND with a capacitor (0.1uF to 1uF)", 16 INTVCC (power) "Internal 5.3V Regulator Output and Bottom MOSFET Driver Supply. The control circuits are powered from this voltage. Decouple this pin to PGND with a minimum of 4.7uF low ESR tantalum or ceramic capacitor.", 17 BG (out) "Bottom Gate Driver Output. This pin drives the gate(s) of the bottom N-channel MOSFET(s) between PGND and INTVCC.", 18 PGND (power) "Power Ground Pin. Connect this pin closely to the source(s) of the bottom N-channel MOSFET(s), the (-) terminal of CVCC and (-) terminal of CIN.", 19 SW "Switch Node Connection to the Inductor. Voltage swing at this pin is from a Schottky diode (external) voltage drop below ground to VIN.", 20 TG (out) "Top Gate Driver Output. This is the output of the floating driver with a voltage swing equal to INTVCC superimposed on the SW voltage.", 21 BOOST "Boosted Floating Driver Supply. The (+) terminal of the bootstrap capacitor connects to this pin. This pin swings from a diode drop below INTVCC up to VIN + INTVCC.", 22 PGOOD (oc) "Power Good Indicator Output. Opendrain output that pulls to ground when output voltage is not in regulation.", 23 MODE/PLLIN (in) "This is a dual function pin. Tying this pin to SGND, INTVCC or floating it enables forced continuous mode, pulse-skipping mode or Burst Mode operation respectively. Applying a clock signal to this pin causes the internal PLL (See Datasheet)", 24 FREQ (in) "Frequency Set/Select Pin. A resistor between this pin and SGND sets the switching frequency. This pin sources 20uA.", 25 EP (power) "Signal Ground. The exposed pad must be soldered to the PCB ground for electrical connection and rated thermal performance. All small-signal components and compensation components should be connected here. Connect to PGND at (See Datasheet)"

## LTC3868EGN-1#PBF
designator U?
Low IQ, Dual 2-Phase Synchronous Step-Down Controller, 28-pin SOP (GN-28), -40 to 85 degC, Pb-Free; Manufacturer: Linear Technology; PartNumber: LTC3868EGN-1#PBF; Frequency Sync Range: 75kHz - 850kHz; Number of Outputs: 2; DatasheetVersion: Rev. D; PackageVersion: Rev. B, 03/2012; PackageReference: GN-28; PackageDescription: 28-Pin Plastic SSOP, Body 9.9 x 3.9 mm, Pitch 0.635 mm; Supplier 1: Digi-Key; Supplier Part Number 1: LTC3868EGN-1#PBF-ND; Supplier 2: Newark; Supplier Part Number 2: 24R3320; RoHS: TRUE; Mounting Technology: Surface Mount; ComponentLink1Description: Manufacturer URL; ComponentLink1URL: http://www.linear.com/; ComponentLink2Description: Datasheet; ComponentLink2URL: http://cds.linear.com/docs/en/datasheet/38681fd.pdf; ComponentLink3Description: Package Specification; ComponentLink3URL: http://cds.linear.com/docs/en/packaging/05081641_B_GN28.pdf
footprint LT-GN-28_N (SOP, 28-Leads, Body 9.98x3.98mm, Pitch 0.635mm, IPC Medium Density)
footprint LT-GN-28_L (SOP, 28-Leads, Body 9.98x3.98mm, Pitch 0.635mm, IPC High Density)
footprint LT-GN-28_M (SOP, 28-Leads, Body 9.98x3.98mm, Pitch 0.635mm, IPC Low Density)
part A pins: 1 ITH1 "Error Amplifier Outputs and Switching Regulator Compensation Points. Each associated channel’s current comparator trip point increases with this control voltage.", 2 VFB1 (in) "Receives the remotely sensed feedback voltage for each controller from an external resistive divider across the output.", 3 SENSE1+ (in) "The (+) input to the differential current comparators are normally connected to DCR sensing networks or current sensing resistors. The ITH pin voltage and controlled offsets between the SENSE- and SENSE+ pins in conjunction (See Datasheet)", 4 SENSE1- (in) "The (-) Input to the Differential Current Comparators. When greater than INTVCC - 0.5V, the SENSE- pin supplies current to the current comparator.", 8 RUN1 (in) "Digital Run Control Inputs for Each Controller. Forcing either of these pins below 1.26V shuts down that controller. Forcing both of these pins below 0.7V shuts down the entire LTC3868-1, reducing quiescent current to (See Datasheet)", 23 BG1 (out) "High Current Gate Drives for Bottom (Synchronous) N-Channel MOSFETs. Voltage swing at these pins is from ground to INTVCC.", 24 BOOST1 "Bootstrapped Supplies to the Topside Floating Drivers. Capacitors are connected between the BOOST and SW pins and Schottky diodes are tied between the BOOST and INTVCC pins. Voltage swing at the BOOST pins is from INTVCC to (See Datasheet)", 25 SW1 "Switch Node Connections to Inductors.", 26 TG1 (out) "High Current Gate Drives for Top N-Channel MOSFETs. These are the outputs of floating drivers with a voltage swing equal to INTVCC - 0.5V superimposed on the switch node voltage SW.", 28 SS1 (in) "External Soft-Start Input. The LTC3868-1 regulates the VFB1,2 voltage to the smaller of 0.8V or the voltage on the SS1,2 pin. An internal 1uA pull-up current source is connected to this pin. A capacitor to ground at this pin (See Datasheet)"
part B pins: 9 RUN2 (in) "Digital Run Control Inputs for Each Controller. Forcing either of these pins below 1.26V shuts down that controller. Forcing both of these pins below 0.7V shuts down the entire LTC3868-1, reducing quiescent current to (See Datasheet)", 10 SENSE2- (in) "The (-) Input to the Differential Current Comparators. When greater than INTVCC - 0.5V, the SENSE- pin supplies current to the current comparator.", 11 SENSE2+ (in) "The (+) input to the differential current comparators are normally connected to DCR sensing networks or current sensing resistors. The ITH pin voltage and controlled offsets between the SENSE- and SENSE+ pins in conjunction (See Datasheet)", 12 VFB2 (in) "Receives the remotely sensed feedback voltage for each controller from an external resistive divider across the output.", 13 ITH2 "Error Amplifier Outputs and Switching Regulator Compensation Points. Each associated channel’s current comparator trip point increases with this control voltage.", 14 SS2 (in) "External Soft-Start Input. The LTC3868-1 regulates the VFB1,2 voltage to the smaller of 0.8V or the voltage on the SS1,2 pin. An internal 1uA pull-up current source is connected to this pin. A capacitor to ground at this pin (See Datasheet)", 15 TG2 (out) "High Current Gate Drives for Top N-Channel MOSFETs. These are the outputs of floating drivers with a voltage swing equal to INTVCC - 0.5V superimposed on the switch node voltage SW.", 16 SW2 "Switch Node Connections to Inductors.", 17 BOOST2 "Bootstrapped Supplies to the Topside Floating Drivers. Capacitors are connected between the BOOST and SW pins and Schottky diodes are tied between the BOOST and INTVCC pins. Voltage swing at the BOOST pins is from INTVCC to (See Datasheet)", 18 BG2 (out) "High Current Gate Drives for Bottom (Synchronous) N-Channel MOSFETs. Voltage swing at these pins is from ground to INTVCC."
part C pins: 5 FREQ (in) "The Frequency Control Pin for the Internal VCO. Connecting this pin to GND forces the VCO to a fixed low frequency of 350kHz. Connecting this pin to INTVCC forces the VCO to a fixed high frequency of 535kHz. Other (See Datasheet)", 6 PLLIN/MODE (in) "External Synchronization Input to Phase Detector and Forced Continuous Mode Input. When an external clock is applied to this pin, the phase-locked loop will force the rising TG1 signal to be synchronized with the rising edge (See Datasheet)", 7 SGND (power) "Small-signal ground common to both controllers, must be routed separately from high current grounds to the common (-) terminals of the CIN capacitors. The exposed pad (QFN only) must be soldered to the PCB for rated thermal (See Datasheet)", 19 INTVCC (power) "Output of the Internal Linear Low Dropout Regulator. The driver and control circuits are powered from this voltage source. Must be decoupled to power ground with a minimum of 4.7uF ceramic or other low ESR capacitor. Do not (See Datasheet)", 20 EXTVCC (power) "External Power Input to an Internal LDO Connected to INTVCC. This LDO supplies INTVCC power, bypassing the internal LDO powered from VIN whenever EXTVCC is higher than 4.7V. See EXTVCC Connection in the Applications (See Datasheet)", 21 PGND (power) "Driver Power Ground. Connects to the sources of bottom (synchronous) N-channel MOSFETs and the (-) terminal(s) of CIN.", 22 VIN (power) "Main Supply Pin. A bypass capacitor should be tied between this pin and the signal ground pin.", 27 PGOOD1 (oc) "Open-Drain Logic Output. PGOOD1 is pulled to ground when the voltage on the VFB1 pin is not within +/-10% of its set point."

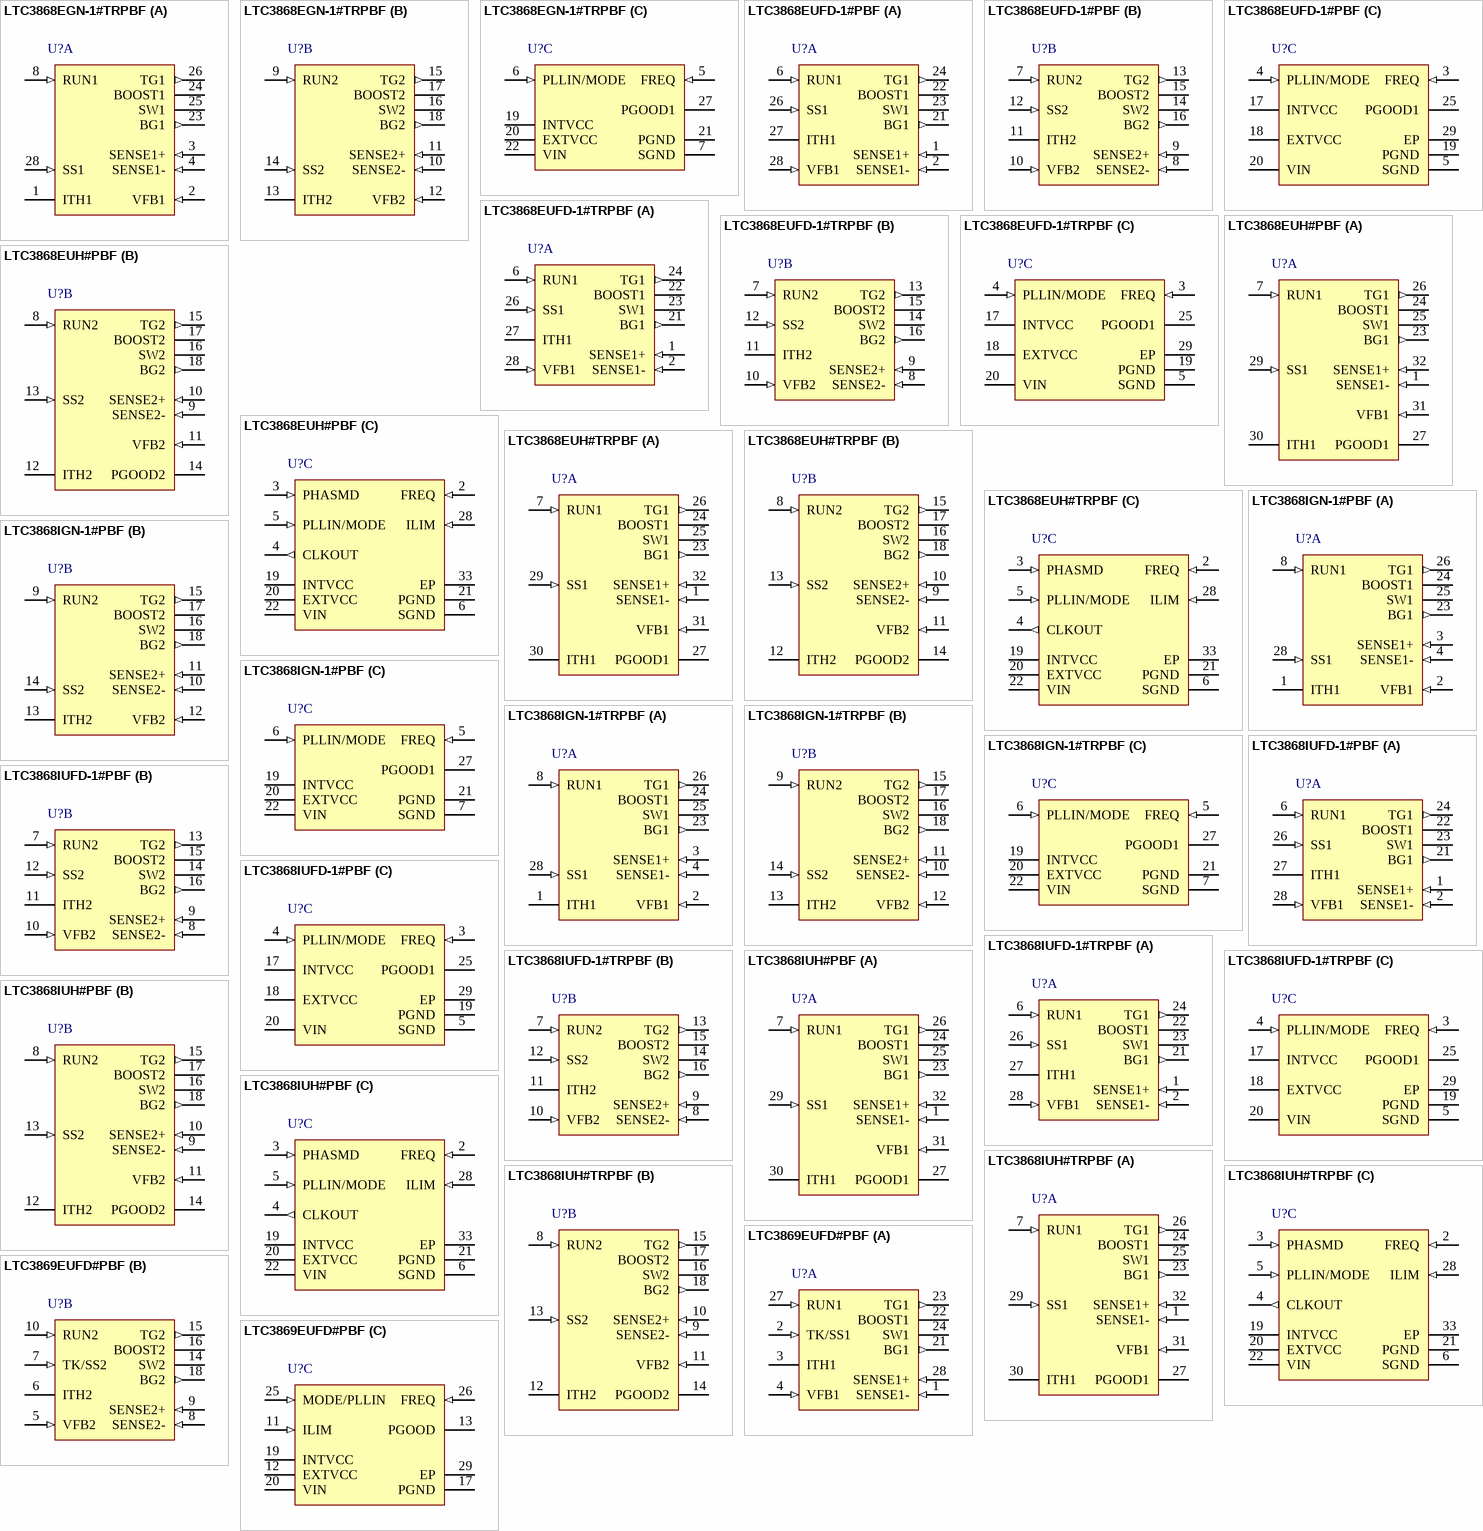
[diagram p108: symbols LTC3868EGN-1#TRPBF to LTC3869EUFD#PBF]